# Altium schematic symbol library DS_zk.SCHLIB: 78 symbols
Pins are listed as number, name and electrical type; pins without a type are passive.

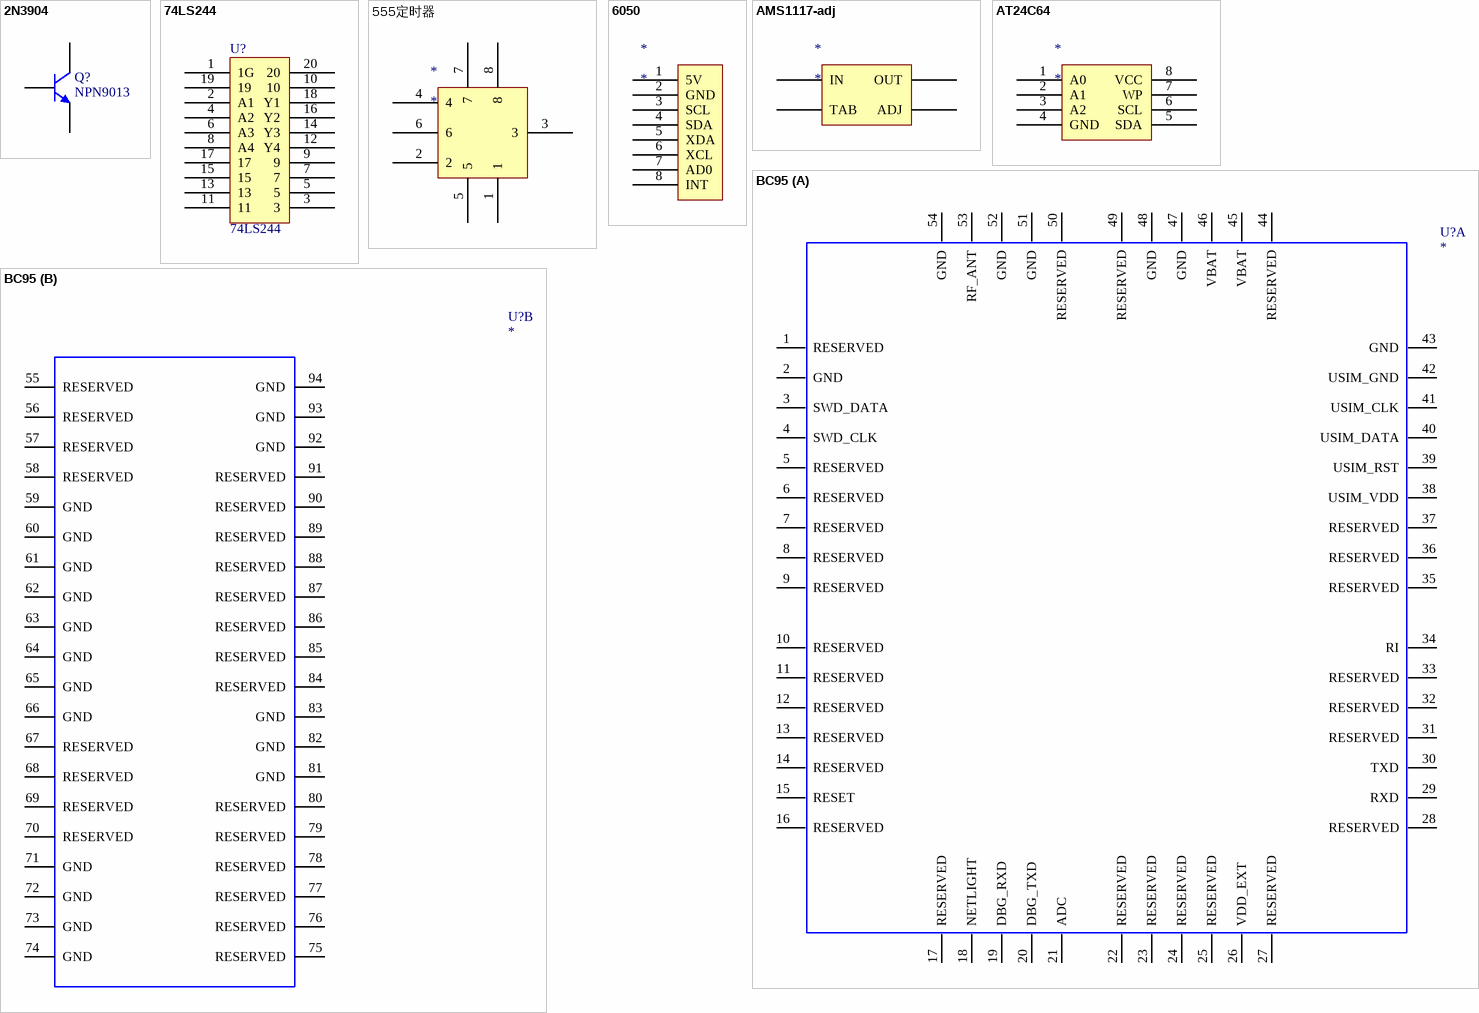
[diagram p0: symbols 2N3904 to BC95]

## 2N3904
designator Q?, comment NPN9013
NPN General Purpose Amplifier; Published: 8-Jun-2000; LatestRevisionDate: 15-Jan-2003; LatestRevisionNote: PCB Footprint 'BCY-W3/D4.7' replaced; DatasheetVersion: 1997; PackageVersion: Sep-1998; PackageReference: TO-92A; Publisher: Altium Limited; PackageDescription: TO, Flat Index; 3 In-Line, Axial Leads; Body Dia. 4.5mm; Leads 0.51 x 0.48 mm (max); ComponentLink1Description: Manufacturer Link; ComponentLink1URL: http://www.fairchildsemi.com/; ComponentLink2Description: Datasheet; ComponentLink2URL: http://www.fairchildsemi.com/ds/2N%2F2N3904.pdf
footprint npn9013 (SOT23, 3-Leads, Body 2.90x2.40mm, Pitch 0.95mm, IPC Medium Density)
simulation model 2N3904 (NPN)
signal-integrity model 2N3904
pins: 1 E, 2 B, 3 C

## 74LS244
designator U?
footprint 74ls244DB (SOP, 20-Leads, Body 13.00x7.50mm, Pitch 1.27mm, IPC Medium Density)
pins: 1 1G, 2 A1, 3, 4 A2, 5, 6 A3, 7, 8 A4, 9, 10, 11, 12 Y4, 13, 14 Y3, 15, 16 Y2, 17, 18 Y1, 19, 20

## 555定时器
designator *
pins: 1, 2, 3, 4, 5, 6, 7, 8

## 6050
designator *
pins: 1 5V, 2 GND, 3 SCL, 4 SDA, 5 XDA, 6 XCL, 7 AD0, 8 INT

## AMS1117-adj
designator *
pins: 1 ADJ, 2 OUT, 3 IN, 4 TAB

## AT24C64
designator *
pins: 1 A0, 2 A1, 3 A2, 4 GND, 5 SDA, 6 SCL, 7 WP, 8 VCC

## BC95
designator U?
Value: *; Part Description: *; PCB DECAL: *
part A pins: 1 RESERVED, 2 GND, 3 SWD_DATA, 4 SWD_CLK, 5 RESERVED, 6 RESERVED, 7 RESERVED, 8 RESERVED, 9 RESERVED, 10 RESERVED, 11 RESERVED, 12 RESERVED, 13 RESERVED, 14 RESERVED, 15 RESET, 16 RESERVED, 17 RESERVED, 18 NETLIGHT, 19 DBG_RXD, 20 DBG_TXD, 21 ADC, 22 RESERVED, 23 RESERVED, 24 RESERVED, 25 RESERVED, 26 VDD_EXT, 27 RESERVED, 28 RESERVED, 29 RXD, 30 TXD, 31 RESERVED, 32 RESERVED, 33 RESERVED, 34 RI, 35 RESERVED, 36 RESERVED, 37 RESERVED, 38 USIM_VDD, 39 USIM_RST, 40 USIM_DATA, 41 USIM_CLK, 42 USIM_GND, 43 GND, 44 RESERVED, 45 VBAT, 46 VBAT, 47 GND, 48 GND, 49 RESERVED, 50 RESERVED, 51 GND, 52 GND, 53 RF_ANT, 54 GND
part B pins: 55 RESERVED, 56 RESERVED, 57 RESERVED, 58 RESERVED, 59 GND, 60 GND, 61 GND, 62 GND, 63 GND, 64 GND, 65 GND, 66 GND, 67 RESERVED, 68 RESERVED, 69 RESERVED, 70 RESERVED, 71 GND, 72 GND, 73 GND, 74 GND, 75 RESERVED, 76 RESERVED, 77 RESERVED, 78 RESERVED, 79 RESERVED, 80 RESERVED, 81 GND, 82 GND, 83 GND, 84 RESERVED, 85 RESERVED, 86 RESERVED, 87 RESERVED, 88 RESERVED, 89 RESERVED, 90 RESERVED, 91 RESERVED, 92 GND, 93 GND, 94 GND
2 alternate drawings of the same symbol

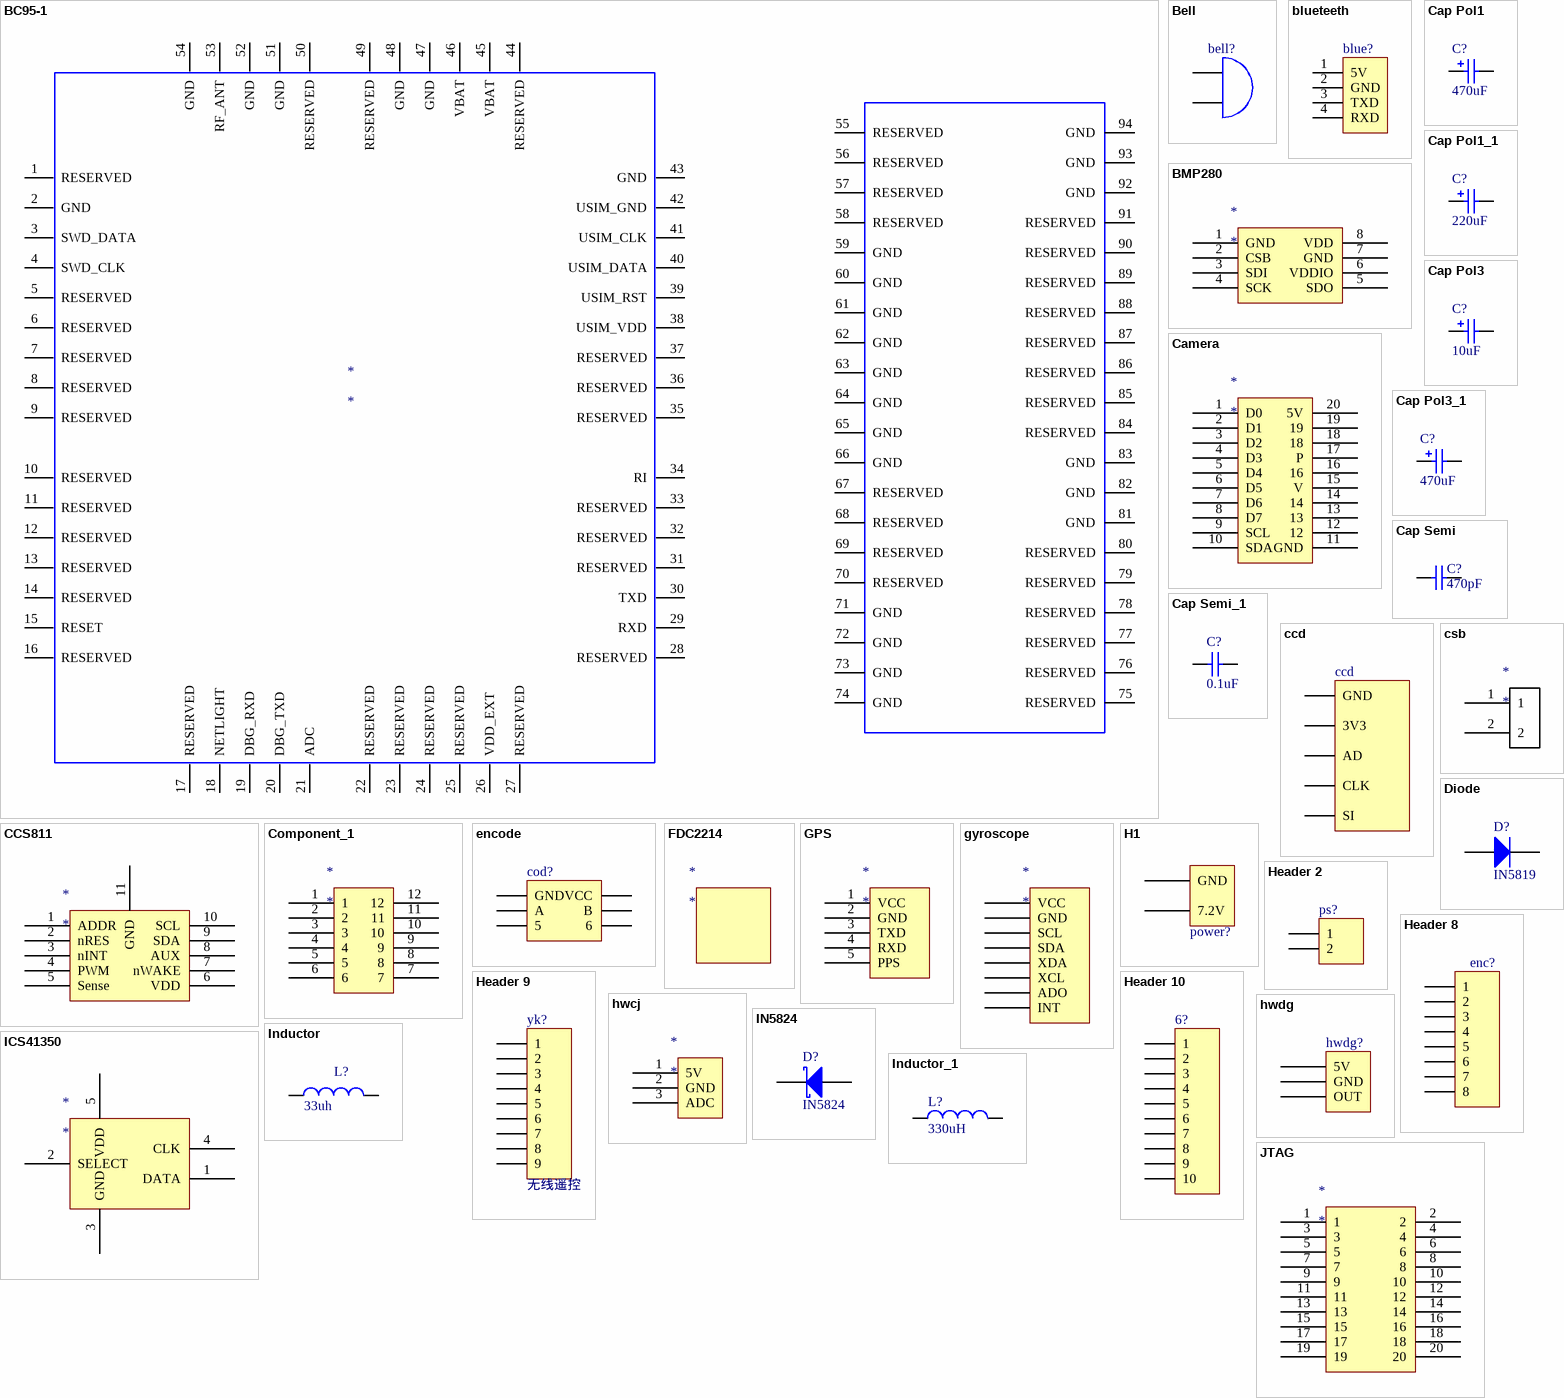
[diagram p1: symbols BC95-1 to JTAG]

## BC95-1
designator *
pins: 1 RESERVED, 2 GND, 3 SWD_DATA, 4 SWD_CLK, 5 RESERVED, 6 RESERVED, 7 RESERVED, 8 RESERVED, 9 RESERVED, 10 RESERVED, 11 RESERVED, 12 RESERVED, 13 RESERVED, 14 RESERVED, 15 RESET, 16 RESERVED, 17 RESERVED, 18 NETLIGHT, 19 DBG_RXD, 20 DBG_TXD, 21 ADC, 22 RESERVED, 23 RESERVED, 24 RESERVED, 25 RESERVED, 26 VDD_EXT, 27 RESERVED, 28 RESERVED, 29 RXD, 30 TXD, 31 RESERVED, 32 RESERVED, 33 RESERVED, 34 RI, 35 RESERVED, 36 RESERVED, 37 RESERVED, 38 USIM_VDD, 39 USIM_RST, 40 USIM_DATA, 41 USIM_CLK, 42 USIM_GND, 43 GND, 44 RESERVED, 45 VBAT, 46 VBAT, 47 GND, 48 GND, 49 RESERVED, 50 RESERVED, 51 GND, 52 GND, 53 RF_ANT, 54 GND, 55 RESERVED, 56 RESERVED, 57 RESERVED, 58 RESERVED, 59 GND, 60 GND, 61 GND, 62 GND, 63 GND, 64 GND, 65 GND, 66 GND, 67 RESERVED, 68 RESERVED, 69 RESERVED, 70 RESERVED, 71 GND, 72 GND, 73 GND, 74 GND, 75 RESERVED, 76 RESERVED, 77 RESERVED, 78 RESERVED, 79 RESERVED, 80 RESERVED, 81 GND, 82 GND, 83 GND, 84 RESERVED, 85 RESERVED, 86 RESERVED, 87 RESERVED, 88 RESERVED, 89 RESERVED, 90 RESERVED, 91 RESERVED, 92 GND, 93 GND, 94 GND

## Bell
designator bell?  (value not drawn)
Electrical Bell; Published: 24-Mar-1999; LatestRevisionDate: 17-Jul-2002; LatestRevisionNote: Re-released for DXP Platform.; PackageReference: PIN2; Publisher: Altium Limited
footprint bezzer
pins: 1 A, 2 B

## blueteeth
designator blue?, comment blueteeth2  (value not drawn)
footprint HDR1X4
footprint HDR1X4 (Connector; Header; 4 Position)
pins: 1 5V, 2 GND, 3 TXD, 4 RXD

## BMP280
designator *
pins: 1 GND, 2 CSB, 3 SDI, 4 SCK, 5 SDO, 6 VDDIO, 7 GND, 8 VDD

## Camera
designator *
pins: 1 D0, 2 D1, 3 D2, 4 D3, 5 D4, 6 D5, 7 D6, 8 D7, 9 SCL, 10 SDA, 11 GND, 12, 13, 14, 15 V, 16, 17 P, 18, 19, 20 5V

## Cap Pol1
designator C?  value 470uF  (hidden comment: Cap Pol1)
Polarized Capacitor (Radial); Published: 8-Jun-2000; LatestRevisionDate: 17-Jul-2002; LatestRevisionNote: Re-released for DXP Platform.; PackageReference: RB7.6-15; Publisher: Altium Limited; PackageDescription: Polarized Capacitor (Radial); 2 Leads
simulation model CAP (Capacitor)
signal-integrity model Cap Pol
footprint 470uF
pins: 1, 2
1 alternate drawing of the same symbol

## Cap Pol1_1
designator C?, comment value 220uF  (hidden comment: Cap Pol1)
Polarized Capacitor (Radial); Published: 8-Jun-2000; LatestRevisionDate: 17-Jul-2002; LatestRevisionNote: Re-released for DXP Platform.; PackageReference: RB7.6-15; Publisher: Altium Limited; PackageDescription: Polarized Capacitor (Radial); 2 Leads
simulation model CAP (Capacitor)
signal-integrity model Cap Pol
footprint 220uf
pins: 1, 2
1 alternate drawing of the same symbol

## Cap Pol3
designator C?, comment 10uF
Polarized Capacitor (Surface Mount); Published: 8-Jun-2000; LatestRevisionDate: 29-May-2009; LatestRevisionNote: IPC-7351 Footprint Added.; PackageReference: C0805; Publisher: Altium Limited; PackageDescription: Chip Capacitor; Value: 10uF
footprint C0805 (Chip Capacitor, Body 2.0x1.3mm, IPC High Density)
footprint 1812 (Chip Capacitor, Body 4.5x3.2mm, IPC High Density)
footprint 1825 (Chip Capacitor, Body 4.5x6.4mm, IPC High Density)
footprint C2225 (Chip Capacitor, Body 5.7x6.4mm, IPC High Density)
footprint 2220 (Chip Capacitor, Body 5.7x5.0mm, IPC High Density)
simulation model CAP (Capacitor)
signal-integrity model Cap Pol
footprint 0805(2012)
pins: 1, 2
1 alternate drawing of the same symbol

## Cap Pol3_1
designator C?, comment 470uF
Polarized Capacitor (Surface Mount); Published: 8-Jun-2000; LatestRevisionDate: 29-May-2009; LatestRevisionNote: IPC-7351 Footprint Added.; PackageReference: C0805; Publisher: Altium Limited; PackageDescription: Chip Capacitor; Value: 470uF
footprint 470UF
footprint 1812 (Chip Capacitor, Body 4.5x3.2mm, IPC High Density)
footprint 1825 (Chip Capacitor, Body 4.5x6.4mm, IPC High Density)
footprint C2225 (Chip Capacitor, Body 5.7x6.4mm, IPC High Density)
footprint 2220 (Chip Capacitor, Body 5.7x5.0mm, IPC High Density)
simulation model CAP (Capacitor)
signal-integrity model Cap Pol
footprint RB7.6-15 (Polarized Capacitor (Radial); 2 Leads)
pins: 1, 2
1 alternate drawing of the same symbol

## Cap Semi
designator C?, comment 470pF
Capacitor (Semiconductor SIM Model); Published: 8-Jun-2000; LatestRevisionDate: 29-May-2009; LatestRevisionNote: IPC-7351 Footprint Added.; PackageReference: C1206; Publisher: Altium Limited; PackageDescription: Chip Capacitor; Value: 470pF
footprint C1206 (Chip Capacitor, Body 3.2x1.6mm, IPC High Density)
footprint 0402 (Chip Capacitor, Body 1.0x0.5mm, IPC High Density)
footprint C2512 (Chip Capacitor, Body 2.54x1.27mm, IPC High Density)
footprint 1608[0603] (Chip Capacitor, Body 1.6x0.8mm, IPC High Density)
footprint C1210 (Chip Capacitor, Body 3.2x2.5mm, IPC High Density)
simulation model CAP (Semiconductor Capacitor)
signal-integrity model Cap Semi
footprint 0805(2012)
pins: 1, 2

## Cap Semi_1
designator C?, comment 0.1uF
Capacitor (Semiconductor SIM Model); Published: 8-Jun-2000; LatestRevisionDate: 29-May-2009; LatestRevisionNote: IPC-7351 Footprint Added.; PackageReference: C1206; Publisher: Altium Limited; PackageDescription: Chip Capacitor; Value: 0.1uF
footprint C1206 (Chip Capacitor, Body 3.2x1.6mm, IPC High Density)
footprint 0402 (Chip Capacitor, Body 1.0x0.5mm, IPC High Density)
footprint C2512 (Chip Capacitor, Body 2.54x1.27mm, IPC High Density)
footprint 1608[0603] (Chip Capacitor, Body 1.6x0.8mm, IPC High Density)
footprint C1210 (Chip Capacitor, Body 3.2x2.5mm, IPC High Density)
simulation model CAP (Semiconductor Capacitor)
signal-integrity model Cap Semi
footprint 0603
pins: 1, 2

## ccd
designator ccd, comment camera_ladnzo1  (value not drawn)
footprint camera_landzo
pins: 1 GND, 2 3V3, 3 AD, 4 CLK, 5 SI

## CCS811
designator *
pins: 1 ADDR, 2 nRES, 3 nINT, 4 PWM, 5 Sense, 6 VDD, 7 nWAKE, 8 AUX, 9 SDA, 10 SCL, 11 GND

## Component_1
designator *
pins: 1, 2, 3, 4, 5, 6, 7, 8, 9, 10, 11, 12

## csb
designator *
pins: 1, 2

## Diode
designator D?, comment IN5819
Default Diode; Published: 8-Jun-2000; LatestRevisionDate: 17-Jul-2002; LatestRevisionNote: Re-released for DXP Platform.; PackageVersion: Sep-1996; PackageReference: SMC; Publisher: Altium Limited; PackageDescription: DO-214-AB/SMC; 2 C-Bend Leads; Body 7.9 x 5.9 mm, inc. leads (LxW); Code_JEDEC: DO-214-AB
footprint SMC (DO-214-AB/SMC; 2 C-Bend Leads; Body 7.9 x 5.9 mm, inc. leads (LxW))
simulation model DIODE (Diode)
signal-integrity model Diode
footprint 0805(2012)
footprint 1206(3216)
pins: 1 A, 2 K

## encode
designator cod?, comment encode_1  (value not drawn)
footprint HDR2X3
pins: 1 GND, 2 VCC, 3 A, 4 B, 5, 6

## FDC2214
designator *

## GPS
designator *
pins: 1 VCC, 2 GND, 3 TXD, 4 RXD, 5 PPS

## gyroscope
designator *
pins: 1 VCC, 2 GND, 3 SCL, 4 SDA, 5 XDA, 6 XCL, 7 ADO, 8 INT

## H1
designator power?  (value not drawn)
footprint KF301-2P
footprint KF301-2P
pins: 1 GND, 2 7.2V

## Header 2
designator ps?  (value not drawn)
Header, 2-Pin; LatestRevisionDate: 17-Jul-2002; LatestRevisionNote: Re-released for DXP Platform.; Publisher: Altium Limited
footprint HDR1X2 (Connector; Header; 2 Position)
signal-integrity model Connector
pins: 1, 2

## Header 8
designator enc?, comment enc  (value not drawn)
Header, 8-Pin; LatestRevisionDate: 17-Jul-2002; LatestRevisionNote: Re-released for DXP Platform.; Publisher: Altium Limited
footprint HDR1X8 (Connector; Header; 8 Position)
signal-integrity model Connector
pins: 1, 2, 3, 4, 5, 6, 7, 8

## Header 9
designator yk?, comment 无线遥控
Header, 9-Pin; LatestRevisionDate: 17-Jul-2002; LatestRevisionNote: Re-released for DXP Platform.; Publisher: Altium Limited
footprint HDR1X9 (Connector; Header; 9 Position)
signal-integrity model Connector
pins: 1, 2, 3, 4, 5, 6, 7, 8, 9

## Header 10
designator 6?, comment 6050  (value not drawn)
Header, 10-Pin; LatestRevisionDate: 17-Jul-2002; LatestRevisionNote: Re-released for DXP Platform.; Publisher: Altium Limited
footprint HDR1X10 (Connector; Header; 10 Position)
signal-integrity model Connector
pins: 1, 2, 3, 4, 5, 6, 7, 8, 9, 10

## hwcj
designator *
pins: 1 5V, 2 GND, 3 ADC

## hwdg
designator hwdg?, comment 红外对管1  (value not drawn)
footprint HDR1X3 (Connector; Header; 3 Position)
pins: 1 5V, 2 GND, 3 OUT

## ICS41350
designator *
pins: 1 DATA, 2 SELECT, 3 GND, 4 CLK, 5 VDD

## IN5824
designator D?
footprint 1N5824
pins: 1 A, 2 K

## Inductor
designator L?  value 33uh  (hidden comment: Inductor)
Code_IEC: 1005; Published: 8-Jun-2000; LatestRevisionDate: 29-May-2009; LatestRevisionNote: IPC-7351 Footprint Added.; PackageReference: 0402-A; Publisher: Altium Limited; PackageDescription: Chip Inductor; Code_JEITA: 0402
simulation model INDUCTOR (Inductor)
signal-integrity model Inductor
footprint 电感8*8
footprint 电感8*8
pins: 1, 2

## Inductor_1
designator L?, comment 330uH
Inductor; Code_IEC: 1005; Published: 8-Jun-2000; LatestRevisionDate: 29-May-2009; LatestRevisionNote: IPC-7351 Footprint Added.; PackageReference: 0402-A; Publisher: Altium Limited; PackageDescription: Chip Inductor; Code_JEITA: 0402; Value: 330uH
footprint 电感8*8
footprint INDC1608L (Chip Inductor, Body 1.6x0.8mm, IPC High Density)
footprint 2029 (Chip Inductor, Body 2.0x1.2mm, IPC High Density)
footprint 0603 (Chip Inductor, Body 0.6x0.3mm, IPC High Density)
footprint INDC3216 (Chip Inductor, Body 3.2x1.6mm, IPC High Density)
footprint INDC4532 (Chip Inductor, Body 4.5x3.2mm, IPC High Density)
simulation model INDUCTOR (Inductor)
signal-integrity model Inductor
pins: 1, 2

## JTAG
designator *
pins: 1, 2, 3, 4, 5, 6, 7, 8, 9, 10, 11, 12, 13, 14, 15, 16, 17, 18, 19, 20

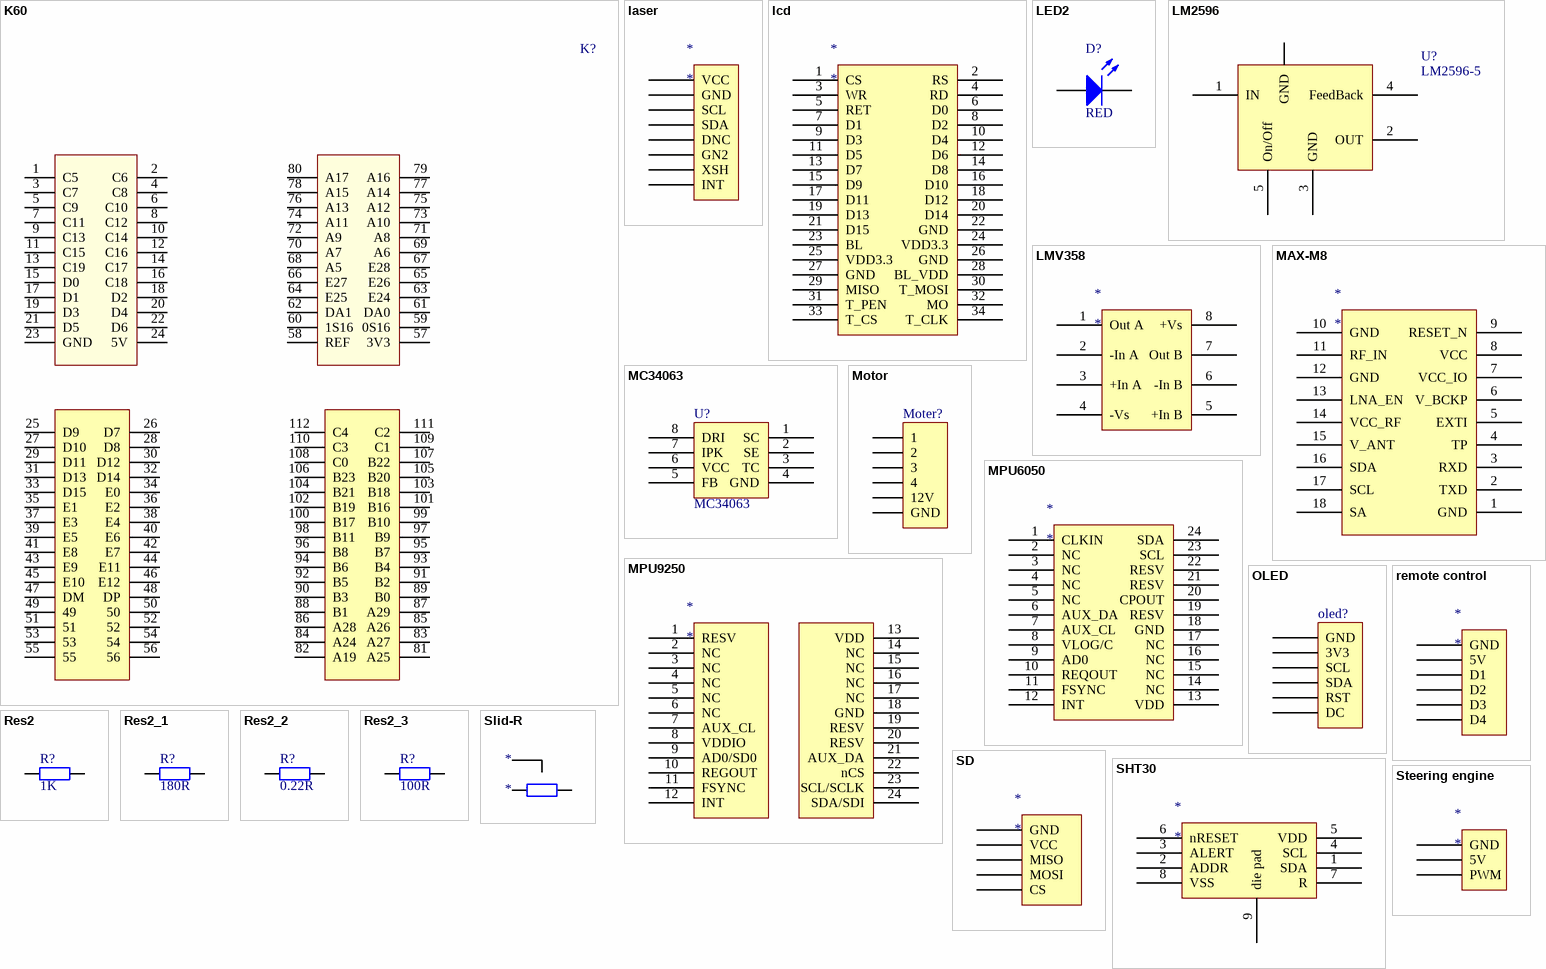
[diagram p2: symbols K60 to Steering engine]

## K60
designator K?  (value not drawn)
footprint k60LY
pins: 1 C5, 2 C6, 3 C7, 4 C8, 5 C9, 6 C10, 7 C11, 8 C12, 9 C13, 10 C14, 11 C15, 12 C16, 13 C19, 14 C17, 15 D0, 16 C18, 17 D1, 18 D2, 19 D3, 20 D4, 21 D5, 22 D6, 23 GND, 24 5V, 25 D9, 26 D7, 27 D10, 28 D8, 29 D11, 30 D12, 31 D13, 32 D14, 33 D15, 34 E0, 35 E1, 36 E2, 37 E3, 38 E4, 39 E5, 40 E6, 41 E8, 42 E7, 43 E9, 44 E11, 45 E10, 46 E12, 47 DM, 48 DP, 49, 50, 51, 52, 53, 54, 55, 56, 57 3V3, 58 REF, 59 0S16, 60 1S16, 61 DA0, 62 DA1, 63 E24, 64 E25, 65 E26, 66 E27, 67 E28, 68 A5, 69 A6, 70 A7, 71 A8, 72 A9, 73 A10, 74 A11, 75 A12, 76 A13, 77 A14, 78 A15, 79 A16, 80 A17, 81 A25, 82 A19, 83 A27, 84 A24, 85 A26, 86 A28, 87 A29, 88 B1, 89 B0, 90 B3, 91 B2, 92 B5, 93 B4, 94 B6, 95 B7, 96 B8, 97 B9, 98 B11, 99 B10, 100 B17, 101 B16, 102 B19, 103 B18, 104 B21, 105 B20, 106 B23, 107 B22, 108 C0, 109 C1, 110 C3, 111 C2, 112 C4

## laser
designator *
pins: 1 VCC, 2 GND, 3 SCL, 4 SDA, 5 DNC, 6 GN2, 7 XSH, 8 INT

## lcd
designator *
pins: 1 CS, 2 RS, 3 WR, 4 RD, 5 RET, 6 D0, 7 D1, 8 D2, 9 D3, 10 D4, 11 D5, 12 D6, 13 D7, 14 D8, 15 D9, 16 D10, 17 D11, 18 D12, 19 D13, 20 D14, 21 D15, 22 GND, 23 BL, 24 VDD3.3, 25 VDD3.3, 26 GND, 27 GND, 28 BL_VDD, 29 MISO, 30 T_MOSI, 31 T_PEN, 32 MO, 33 T_CS, 34 T_CLK

## LED2
designator D?, comment RED
Typical RED, GREEN, YELLOW, AMBER GaAs LED; Published: 8-Jun-2000; LatestRevisionDate: 17-Jul-2002; LatestRevisionNote: Re-released for DXP Platform.; PackageVersion: Feb-2002; PackageReference: 3.2X1.6X1.1; Publisher: Altium Limited; PackageDescription: SM LED; 2 Flat Leads
simulation model LED2 (Diode)
footprint 0805LED
pins: 1 A, 2 K

## LM2596
designator U?, comment LM2596-5
footprint LM2596 (D2-PAK, 6-Pads, Body 7.55x8.56mm (max), IPC Medium Density)
pins: 1 IN, 2 OUT, 3 GND, 4 FeedBack, 5 On/Off, 6 GND

## LMV358
designator *
pins: 1 Out A, 2 -In A, 3 +In A, 4 -Vs, 5 +In B, 6 -In B, 7 Out B, 8 +Vs

## MAX-M8
designator *
pins: 1 GND, 2 TXD, 3 RXD, 4 TP, 5 EXTI, 6 V_BCKP, 7 VCC_IO, 8 VCC, 9 RESET_N, 10 GND, 11 RF_IN, 12 GND, 13 LNA_EN, 14 VCC_RF, 15 V_ANT, 16 SDA, 17 SCL, 18 SA

## MC34063
designator U?
footprint MC34063 (SOIC, 8-Leads, Body 4.90x3.90mm, Pitch 1.27mm, IPC Medium Density)
pins: 1 SC, 2 SE, 3 TC, 4 GND, 5 FB, 6 VCC, 7 IPK, 8 DRI

## Motor
designator Moter?  (value not drawn)
footprint HDR1X6
pins: 1, 2, 3, 4, 5 12V, 6 GND

## MPU6050
designator *
pins: 1 CLKIN, 2 NC, 3 NC, 4 NC, 5 NC, 6 AUX_DA, 7 AUX_CL, 8 VLOG/C, 9 AD0, 10 REQOUT, 11 FSYNC, 12 INT, 13 VDD, 14 NC, 15 NC, 16 NC, 17 NC, 18 GND, 19 RESV, 20 CPOUT, 21 RESV, 22 RESV, 23 SCL, 24 SDA

## MPU9250
designator *
pins: 1 RESV, 2 NC, 3 NC, 4 NC, 5 NC, 6 NC, 7 AUX_CL, 8 VDDIO, 9 AD0/SD0, 10 REGOUT, 11 FSYNC, 12 INT, 13 VDD, 14 NC, 15 NC, 16 NC, 17 NC, 18 GND, 19 RESV, 20 RESV, 21 AUX_DA, 22 nCS, 23 SCL/SCLK, 24 SDA/SDI

## OLED
designator oled?  (value not drawn)
footprint HDR1X6 (Connector; Header; 6 Position)
pins: 1 GND, 2 3V3, 3 SCL, 4 SDA, 5 RST, 6 DC

## remote control
designator *
pins: 1 GND, 2 5V, 3 D1, 4 D2, 5 D3, 6 D4

## Res2
designator R?  value 1K  (hidden comment: Res2)
Resistor; Published: 8-Jun-2000; LatestRevisionDate: 17-Jul-2002; LatestRevisionNote: Re-released for DXP Platform.; PackageReference: AXIAL-0.4; Publisher: Altium Limited; PackageDescription: Axial Device, Thru-Hole; 2 Leads; 0.4 in Pin Spacing
simulation model RESISTOR (Resistor)
signal-integrity model Res
footprint 0603
pins: 1, 2

## Res2_1
designator R?, comment 180R
Resistor; Published: 8-Jun-2000; LatestRevisionDate: 17-Jul-2002; LatestRevisionNote: Re-released for DXP Platform.; PackageReference: AXIAL-0.4; Publisher: Altium Limited; PackageDescription: Axial Device, Thru-Hole; 2 Leads; 0.4 in Pin Spacing; Value: 180R
footprint AXIAL-0.4 (Axial Device, Thru-Hole; 2 Leads; 0.4 in Pin Spacing)
simulation model RESISTOR (Resistor)
signal-integrity model Res
footprint 0603
pins: 1, 2

## Res2_2
designator R?, comment 0.22R
Resistor; Published: 8-Jun-2000; LatestRevisionDate: 17-Jul-2002; LatestRevisionNote: Re-released for DXP Platform.; PackageReference: AXIAL-0.4; Publisher: Altium Limited; PackageDescription: Axial Device, Thru-Hole; 2 Leads; 0.4 in Pin Spacing; Value: 0.22R
footprint AXIAL-0.4 (Axial Device, Thru-Hole; 2 Leads; 0.4 in Pin Spacing)
simulation model RESISTOR (Resistor)
signal-integrity model Res
footprint 1206(3216)
pins: 1, 2

## Res2_3
designator R?, comment 100R
Resistor; Published: 8-Jun-2000; LatestRevisionDate: 17-Jul-2002; LatestRevisionNote: Re-released for DXP Platform.; PackageReference: AXIAL-0.4; Publisher: Altium Limited; PackageDescription: Axial Device, Thru-Hole; 2 Leads; 0.4 in Pin Spacing; Value: 100R
footprint AXIAL-0.4 (Axial Device, Thru-Hole; 2 Leads; 0.4 in Pin Spacing)
simulation model RESISTOR (Resistor)
signal-integrity model Res
footprint 0805(2012)
3D model 0805 (PCB3D Model)
pins: 1, 2

## SD
designator *
pins: 1 GND, 2 VCC, 3 MISO, 4 MOSI, 5 CS

## SHT30
designator *
pins: 1 SDA, 2 ADDR, 3 ALERT, 4 SCL, 5 VDD, 6 nRESET, 7 R, 8 VSS, 9 die pad

## Slid-R
designator *
pins: 1, 2, 3 1

## Steering engine
designator *
pins: 1 GND, 2 5V, 3 PWM

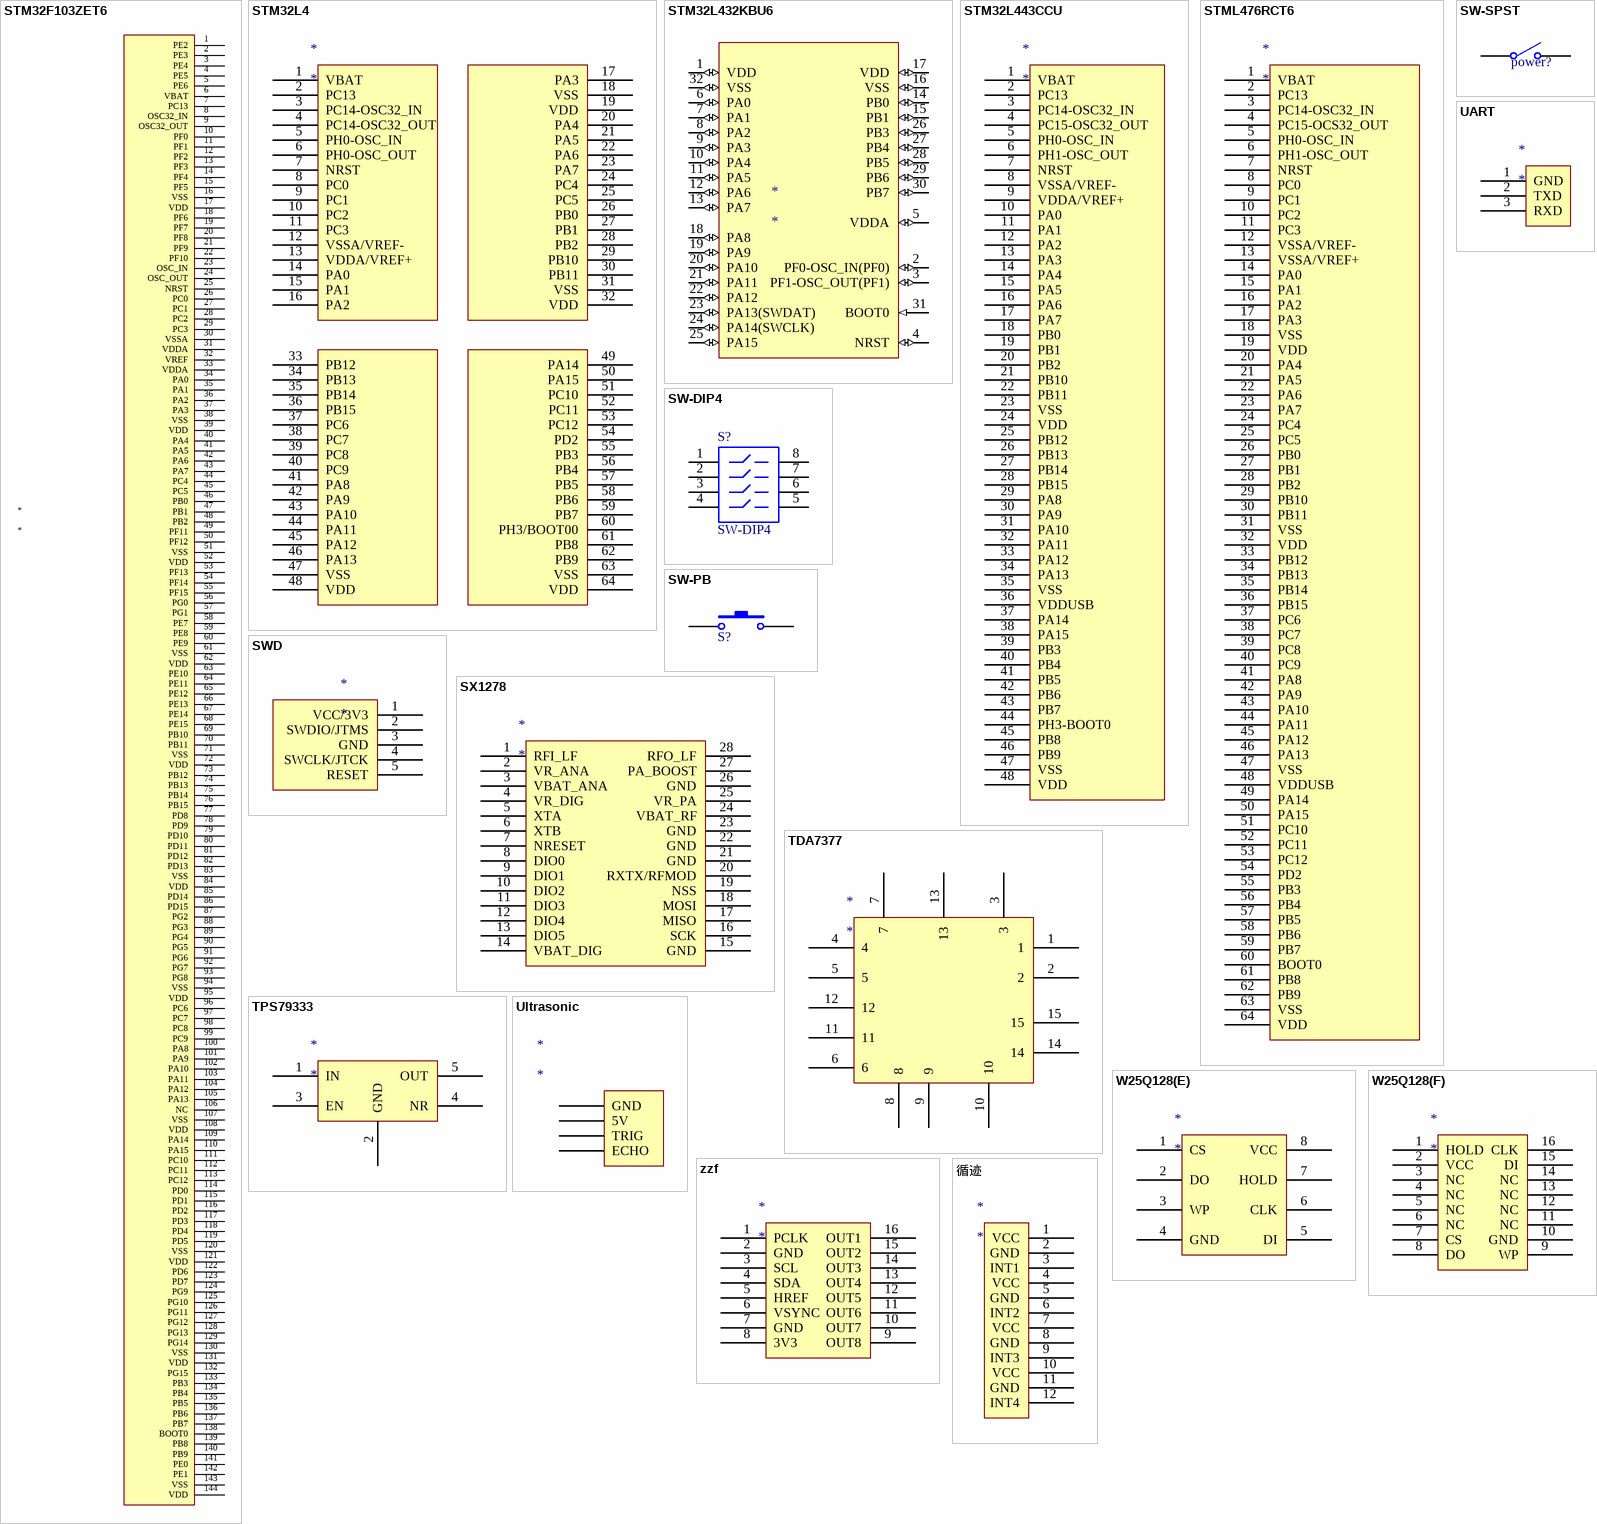
[diagram p3: symbols STM32F103ZET6 to 循迹]

## STM32F103ZET6
designator *
pins: 1 PE2, 2 PE3, 3 PE4, 4 PE5, 5 PE6, 6 VBAT, 7 PC13, 8 OSC32_IN, 9 OSC32_OUT, 10 PF0, 11 PF1, 12 PF2, 13 PF3, 14 PF4, 15 PF5, 16 VSS, 17 VDD, 18 PF6, 19 PF7, 20 PF8, 21 PF9, 22 PF10, 23 OSC_IN, 24 OSC_OUT, 25 NRST, 26 PC0, 27 PC1, 28 PC2, 29 PC3, 30 VSSA, 31 VDDA, 32 VREF, 33 VDDA, 34 PA0, 35 PA1, 36 PA2, 37 PA3, 38 VSS, 39 VDD, 40 PA4, 41 PA5, 42 PA6, 43 PA7, 44 PC4, 45 PC5, 46 PB0, 47 PB1, 48 PB2, 49 PF11, 50 PF12, 51 VSS, 52 VDD, 53 PF13, 54 PF14, 55 PF15, 56 PG0, 57 PG1, 58 PE7, 59 PE8, 60 PE9, 61 VSS, 62 VDD, 63 PE10, 64 PE11, 65 PE12, 66 PE13, 67 PE14, 68 PE15, 69 PB10, 70 PB11, 71 VSS, 72 VDD, 73 PB12, 74 PB13, 75 PB14, 76 PB15, 77 PD8, 78 PD9, 79 PD10, 80 PD11, 81 PD12, 82 PD13, 83 VSS, 84 VDD, 85 PD14, 86 PD15, 87 PG2, 88 PG3, 89 PG4, 90 PG5, 91 PG6, 92 PG7, 93 PG8, 94 VSS, 95 VDD, 96 PC6, 97 PC7, 98 PC8, 99 PC9, 100 PA8, 101 PA9, 102 PA10, 103 PA11, 104 PA12, 105 PA13, 106 NC, 107 VSS, 108 VDD, 109 PA14, 110 PA15, 111 PC10, 112 PC11, 113 PC12, 114 PD0, 115 PD1, 116 PD2, 117 PD3, 118 PD4, 119 PD5, 120 VSS, 121 VDD, 122 PD6, 123 PD7, 124 PG9, 125 PG10, 126 PG11, 127 PG12, 128 PG13, 129 PG14, 130 VSS, 131 VDD, 132 PG15, 133 PB3, 134 PB4, 135 PB5, 136 PB6, 137 PB7, 138 BOOT0, 139 PB8, 140 PB9, 141 PE0, 142 PE1, 143 VSS, 144 VDD

## STM32L4
designator *
pins: 1 VBAT, 2 PC13, 3 PC14-OSC32_IN, 4 PC14-OSC32_OUT, 5 PH0-OSC_IN, 6 PH0-OSC_OUT, 7 NRST, 8 PC0, 9 PC1, 10 PC2, 11 PC3, 12 VSSA/VREF-, 13 VDDA/VREF+, 14 PA0, 15 PA1, 16 PA2, 17 PA3, 18 VSS, 19 VDD, 20 PA4, 21 PA5, 22 PA6, 23 PA7, 24 PC4, 25 PC5, 26 PB0, 27 PB1, 28 PB2, 29 PB10, 30 PB11, 31 VSS, 32 VDD, 33 PB12, 34 PB13, 35 PB14, 36 PB15, 37 PC6, 38 PC7, 39 PC8, 40 PC9, 41 PA8, 42 PA9, 43 PA10, 44 PA11, 45 PA12, 46 PA13, 47 VSS, 48 VDD, 49 PA14, 50 PA15, 51 PC10, 52 PC11, 53 PC12, 54 PD2, 55 PB3, 56 PB4, 57 PB5, 58 PB6, 59 PB7, 60 PH3/BOOT00, 61 PB8, 62 PB9, 63 VSS, 64 VDD

## STM32L432KBU6
designator *
pins: 1 VDD (io) "PA0/USART2_CTS,TIM2_CH1_ETR,COMP1_OUT,TSC_G1_IO1/ADC_IN0,COMP1_INM6,RTC_TAMP2,WKUP1", 2 PF0-OSC_IN(PF0) (io) "PF0-OSC_IN(PF0)/OSC_IN", 3 PF1-OSC_OUT(PF1) (io) "PF1-OSC_OUT(PF1)/OSC_OUT", 4 NRST (io) "Device reset input / internal reset output (active low)", 5 VDDA (io) "PA0/USART2_CTS,TIM2_CH1_ETR,COMP1_OUT,TSC_G1_IO1/ADC_IN0,COMP1_INM6,RTC_TAMP2,WKUP1", 6 PA0 (io) "PA0/USART2_CTS,TIM2_CH1_ETR,COMP1_OUT,TSC_G1_IO1/ADC_IN0,COMP1_INM6,RTC_TAMP2,WKUP1", 7 PA1 (io) "PA1/USART2_RTS,TIM2_CH2,TSC_G1_IO2,EVENTOUT/ADC_IN1,COMP1_INP", 8 PA2 (io) "PA2/USART2_TX,TIM2_CH3,TIM15_CH1,COMP2_OUT,TSC_G1_IO3/ADC_IN2,COMP2_INM6", 9 PA3 (io) "PA3/USART2_RX,TIM2_CH4,TIM15_CH2,TSC_G1_IO4/ADC_IN3,COMP2_INP", 10 PA4 (io) "PA4/SPI1_NSS/I2S1_WS,USART2_CK,TIM14_CH1,TSC_G2_IO1/ADC_IN4,COMP1_INM4,COMP2_INM4,DAC1_OUT", 11 PA5 (io) "PA5/SPI1_SCK/I2S1_CK,CEC,TIM2_CH1_ETR,TSC_G2_IO2/ADC_IN5,COMP1_INM5,COMP2_INM5", 12 PA6 (io) "PA6/SPI1_MISO/I2S1_MCK,TIM3_CH1,TIM1_BKIN,TIM16_CH1,COMP1_OUT,TSC_G2_IO3,EVENTOUT/ADC_IN6", 13 PA7 (io) "PA7/SPI1_MOSI/I2S1_SD,TIM3_CH2,TIM14_CH1,TIM1_CH1N,TIM17_CH1,COMP2_OUT,TSC_G2_IO4,EVENTOUT/ADC_IN7", 14 PB0 (io) "PB0/TIM3_CH3,TIM1_CH2N,TSC_G3_IO2,EVENTOUT/ADC_IN8", 15 PB1 (io) "PB1/TIM3_CH4,TIM14_CH1,TIM1_CH3N,TSC_G3_IO3/ADC_IN9", 16 VSS (io) "PA0/USART2_CTS,TIM2_CH1_ETR,COMP1_OUT,TSC_G1_IO1/ADC_IN0,COMP1_INM6,RTC_TAMP2,WKUP1", 17 VDD (io) "PA0/USART2_CTS,TIM2_CH1_ETR,COMP1_OUT,TSC_G1_IO1/ADC_IN0,COMP1_INM6,RTC_TAMP2,WKUP1", 18 PA8 (io) "PA8/USART1_CK,TIM1_CH1,EVENTOUT,MCO", 19 PA9 (io) "PA9/USART1_TX,TIM1_CH2,TIM15_BKIN,TSC_G4_IO1", 20 PA10 (io) "PA10/USART1_RX,TIM1_CH3,TIM17_BKIN,TSC_G4_IO2", 21 PA11 (io) "PA11/USART1_CTS,TIM1_CH4,COMP1_OUT,TSC_G4_IO3,EVENTOUT", 22 PA12 (io) "PA12/USART1_RTS,TIM1_ETR,COMP2_OUT,TSC_G4_IO4,EVENTOUT", 23 PA13(SWDAT) (io) "PA13(SWDAT)/IR_OUT,SWDAT", 24 PA14(SWCLK) (io) "PA14(SWCLK)/USART2_TX,SWCLK", 25 PA15 (io) "PA15/SPI1_NSS/I2S1_WS,USART2_RX,TIM2_CH1_ETR,EVENTOUT", 26 PB3 (io) "PB3/SPI1_SCK/I2S1_CK,TIM2_CH2,TSC_G5_IO1,EVENTOUT", 27 PB4 (io) "PB4/SPI1_MISO/I2S1_MCK,TIM3_CH1,TSC_G5_IO2,EVENTOUT", 28 PB5 (io) "PB5/SPI1_MOSI,I2S1_SD,I2C1_SMBA,TIM16_BKIN,TIM3_CH2", 29 PB6 (io) "PB6/I2C1_SCL,USART1_TX,TIM16_CH1N,TSC_G5_IO3", 30 PB7 (io) "PB7/I2C1_SDA,USART1_RX,TIM17_CH1N,TSC_G5_IO4", 31 BOOT0 (in) "Boot memory selection", 32 VSS (io) "PA0/USART2_CTS,TIM2_CH1_ETR,COMP1_OUT,TSC_G1_IO1/ADC_IN0,COMP1_INM6,RTC_TAMP2,WKUP1"

## STM32L443CCU
designator *
pins: 1 VBAT, 2 PC13, 3 PC14-OSC32_IN, 4 PC15-OSC32_OUT, 5 PH0-OSC_IN, 6 PH1-OSC_OUT, 7 NRST, 8 VSSA/VREF-, 9 VDDA/VREF+, 10 PA0, 11 PA1, 12 PA2, 13 PA3, 14 PA4, 15 PA5, 16 PA6, 17 PA7, 18 PB0, 19 PB1, 20 PB2, 21 PB10, 22 PB11, 23 VSS, 24 VDD, 25 PB12, 26 PB13, 27 PB14, 28 PB15, 29 PA8, 30 PA9, 31 PA10, 32 PA11, 33 PA12, 34 PA13, 35 VSS, 36 VDDUSB, 37 PA14, 38 PA15, 39 PB3, 40 PB4, 41 PB5, 42 PB6, 43 PB7, 44 PH3-BOOT0, 45 PB8, 46 PB9, 47 VSS, 48 VDD

## STML476RCT6
designator *
pins: 1 VBAT, 2 PC13, 3 PC14-OSC32_IN, 4 PC15-OCS32_OUT, 5 PH0-OSC_IN, 6 PH1-OSC_OUT, 7 NRST, 8 PC0, 9 PC1, 10 PC2, 11 PC3, 12 VSSA/VREF-, 13 VSSA/VREF+, 14 PA0, 15 PA1, 16 PA2, 17 PA3, 18 VSS, 19 VDD, 20 PA4, 21 PA5, 22 PA6, 23 PA7, 24 PC4, 25 PC5, 26 PB0, 27 PB1, 28 PB2, 29 PB10, 30 PB11, 31 VSS, 32 VDD, 33 PB12, 34 PB13, 35 PB14, 36 PB15, 37 PC6, 38 PC7, 39 PC8, 40 PC9, 41 PA8, 42 PA9, 43 PA10, 44 PA11, 45 PA12, 46 PA13, 47 VSS, 48 VDDUSB, 49 PA14, 50 PA15, 51 PC10, 52 PC11, 53 PC12, 54 PD2, 55 PB3, 56 PB4, 57 PB5, 58 PB6, 59 PB7, 60 BOOT0, 61 PB8, 62 PB9, 63 VSS, 64 VDD

## SW-DIP4
designator S?
DIP Switch; Published: 24-Mar-1999; LatestRevisionDate: 17-Jul-2002; LatestRevisionNote: Re-released for DXP Platform.; PackageReference: DIP-8; Publisher: Altium Limited
footprint BMKGTP
simulation model dpsw4 (Spice Subcircuit)
pins: 1, 2, 3, 4, 5, 6, 7, 8

## SW-PB
designator S?  (value not drawn)
Switch; Published: 24-Mar-1999; LatestRevisionDate: 17-Jul-2002; LatestRevisionNote: Re-released for DXP Platform.; PackageReference: SPST-2; Publisher: Altium Limited; PackageDescription: Switch; 2 Leads
footprint BUTTON
pins: 1, 2

## SW-SPST
designator power?  (value not drawn)
Single-Pole, Single-Throw Switch; Published: 24-Mar-1999; LatestRevisionDate: 17-Jul-2002; LatestRevisionNote: Re-released for DXP Platform.; PackageReference: SPST-2; Publisher: Altium Limited; PackageDescription: Switch; 2 Leads
footprint switch
pins: 1 COMMON, 2 NO

## SWD
designator *
pins: 1 VCC/3V3, 2 SWDIO/JTMS, 3 GND, 4 SWCLK/JTCK, 5 RESET

## SX1278
designator *
pins: 1 RFI_LF, 2 VR_ANA, 3 VBAT_ANA, 4 VR_DIG, 5 XTA, 6 XTB, 7 NRESET, 8 DIO0, 9 DIO1, 10 DIO2, 11 DIO3, 12 DIO4, 13 DIO5, 14 VBAT_DIG, 15 GND, 16 SCK, 17 MISO, 18 MOSI, 19 NSS, 20 RXTX/RFMOD, 21 GND, 22 GND, 23 GND, 24 VBAT_RF, 25 VR_PA, 26 GND, 27 PA_BOOST, 28 RFO_LF

## TDA7377
designator *
pins: 1, 2, 3, 4, 5, 6, 7, 8, 9, 10, 11, 12, 13, 14, 15

## TPS79333
designator *
pins: 1 IN, 2 GND, 3 EN, 4 NR, 5 OUT

## UART
designator *
pins: 1 GND, 2 TXD, 3 RXD

## Ultrasonic
designator *
pins: 1 GND, 2 5V, 3 TRIG, 4 ECHO

## W25Q128(E)
designator *
pins: 1 CS, 2 DO, 3 WP, 4 GND, 5 DI, 6 CLK, 7 HOLD, 8 VCC

## W25Q128(F)
designator *
pins: 1 HOLD, 2 VCC, 3 NC, 4 NC, 5 NC, 6 NC, 7 CS, 8 DO, 9 WP, 10 GND, 11 NC, 12 NC, 13 NC, 14 NC, 15 DI, 16 CLK

## zzf
designator *
pins: 1 PCLK, 2 GND, 3 SCL, 4 SDA, 5 HREF, 6 VSYNC, 7 GND, 8 3V3, 9 OUT8, 10 OUT7, 11 OUT6, 12 OUT5, 13 OUT4, 14 OUT3, 15 OUT2, 16 OUT1

## 循迹
designator *
pins: 1 VCC, 2 GND, 3 INT1, 4 VCC, 5 GND, 6 INT2, 7 VCC, 8 GND, 9 INT3, 10 VCC, 11 GND, 12 INT4